# EAGLE library part XTP9B-DMS-001 (library XTrend)
XTP9B-DMS-001 radio module
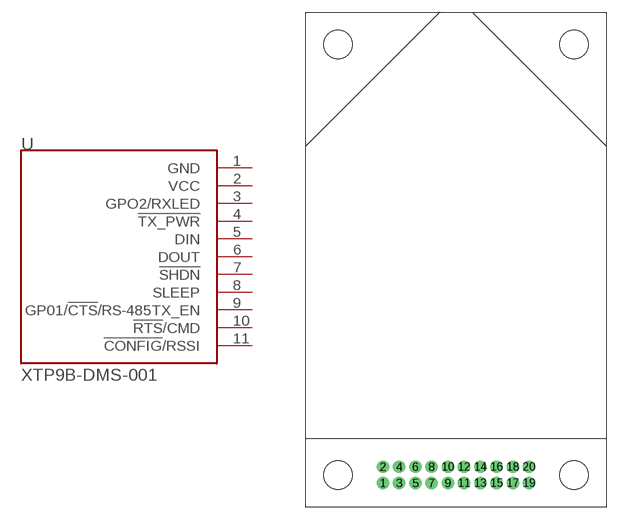
[diagram p0: symbol with the pads of XTP9B-DMS-001; footprint XTP9B-DMS-001]

Designator prefix -

## XTP9B-DMS-001  [XTP9B-DMS-001]
1  GND  sup
2  VCC  sup
3  GPO2/RXLED  out
4  !TX_PWR!  out
5  DIN  in
6  DOUT  out
7  !SHDN!  in
8  SLEEP  in
9  GP01/!CTS!/RS-485TX_EN  out
10  !RTS!/CMD  in
11  !CONFIG!/RSSI

## Footprint XTP9B-DMS-001 (pad centres in mm)
drill 1: 1 -9,-27.5; 2 -9,-25.5; 3 -7,-27.5; 4 -7,-25.5; 5 -5,-27.5; 6 -5,-25.5; 7 -3,-27.5; 8 -3,-25.5; 9 -1,-27.5; 10 -1,-25.5; 11 1,-27.5; 12 1,-25.5; 13 3,-27.5; 14 3,-25.5; 15 5,-27.5; 16 5,-25.5; 17 7,-27.5; 18 7,-25.5; 19 9,-27.5; 20 9,-25.5
hole 3.5 at -14.5,-26.5
hole 3.5 at 14.5,-26.5
hole 3.5 at 14.5,26.5
hole 3.5 at -14.5,26.5